# Altium integrated library LT3652IMSEPBF.IntLib: 1 symbol
Pins are listed as number, name and electrical type; pins without a type are passive.

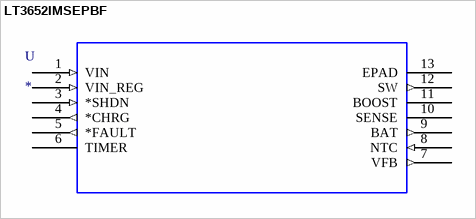
[diagram p0: symbol LT3652IMSEPBF]

## LT3652IMSEPBF
designator U
Battery Charger Li-Ion 2000mA 4.2V Automotive 12-Pin MSOP EP Tube; MP: LT3652IMSE#PBF; MF: Analog Devices; Package: MSOP W/ EP-12 Analog Devices; Digi-Key_Purchase_URL: https://www.digikey.com/product-detail/en/linear-technology-analog-devices/LT3652IMSE-PBF/LT3652IMSE-PBF-ND/2237473?utm_source=snapeda&utm_medium=aggregator&utm_campaign=symbol; Value: *; Digi-Key_Part_Number: LT3652IMSE#PBF-ND; SnapEDA_Link: https://www.snapeda.com/parts/LT3652IMSE%23PBF/Analog%20Devices/view-part/4331669/?ref=snap
footprint MSOP-12_MSE
pins: 1 VIN (in), 2 VIN_REG (in), 3 *SHDN (in), 4 *CHRG (out), 5 *FAULT (out), 6 TIMER, 7 VFB (out), 8 NTC (in), 9 BAT (out), 10 SENSE, 11 BOOST, 12 SW (out), 13 EPAD